# Altium schematic symbol library LDD-C514RI.Schlib: 1 symbol
Pins are listed as number, name and electrical type; pins without a type are passive.

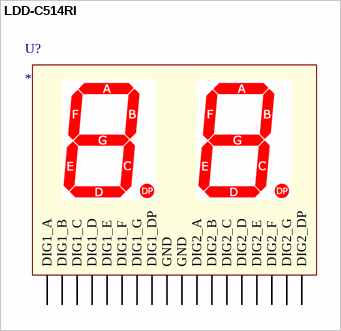
[diagram p0: symbol LDD-C514RI]

## LDD-C514RI
designator U?
Dual 7-segment LED display, common cathode
pins: 1 DIG1_E, 2 DIG1_D, 3 DIG1_C, 4 DIG1_DP, 5 DIG2_E, 6 DIG2_D, 7 DIG2_G, 8 DIG2_C, 9 DIG2_DP, 10 DIG2_B, 11 DIG2_A, 12 DIG2_F, 13 GND, 14 GND, 15 DIG1_B, 16 DIG1_A, 17 DIG1_G, 18 DIG1_F